# Altium footprint library Eurocard VME 3U (3.937 x 6.299 inches).PcbLib: 28 footprints (part 2 of 2)
Each footprint in its own frame and in the unit in brackets; x right, y up, seen from the top. Pads: shape width x height; smd on the part's side, far side on the other; paste and mask are expansions set on the pad; w line width, h text height; cw(c..) or ccw(c..) is an arc to the next point about the centre after c.
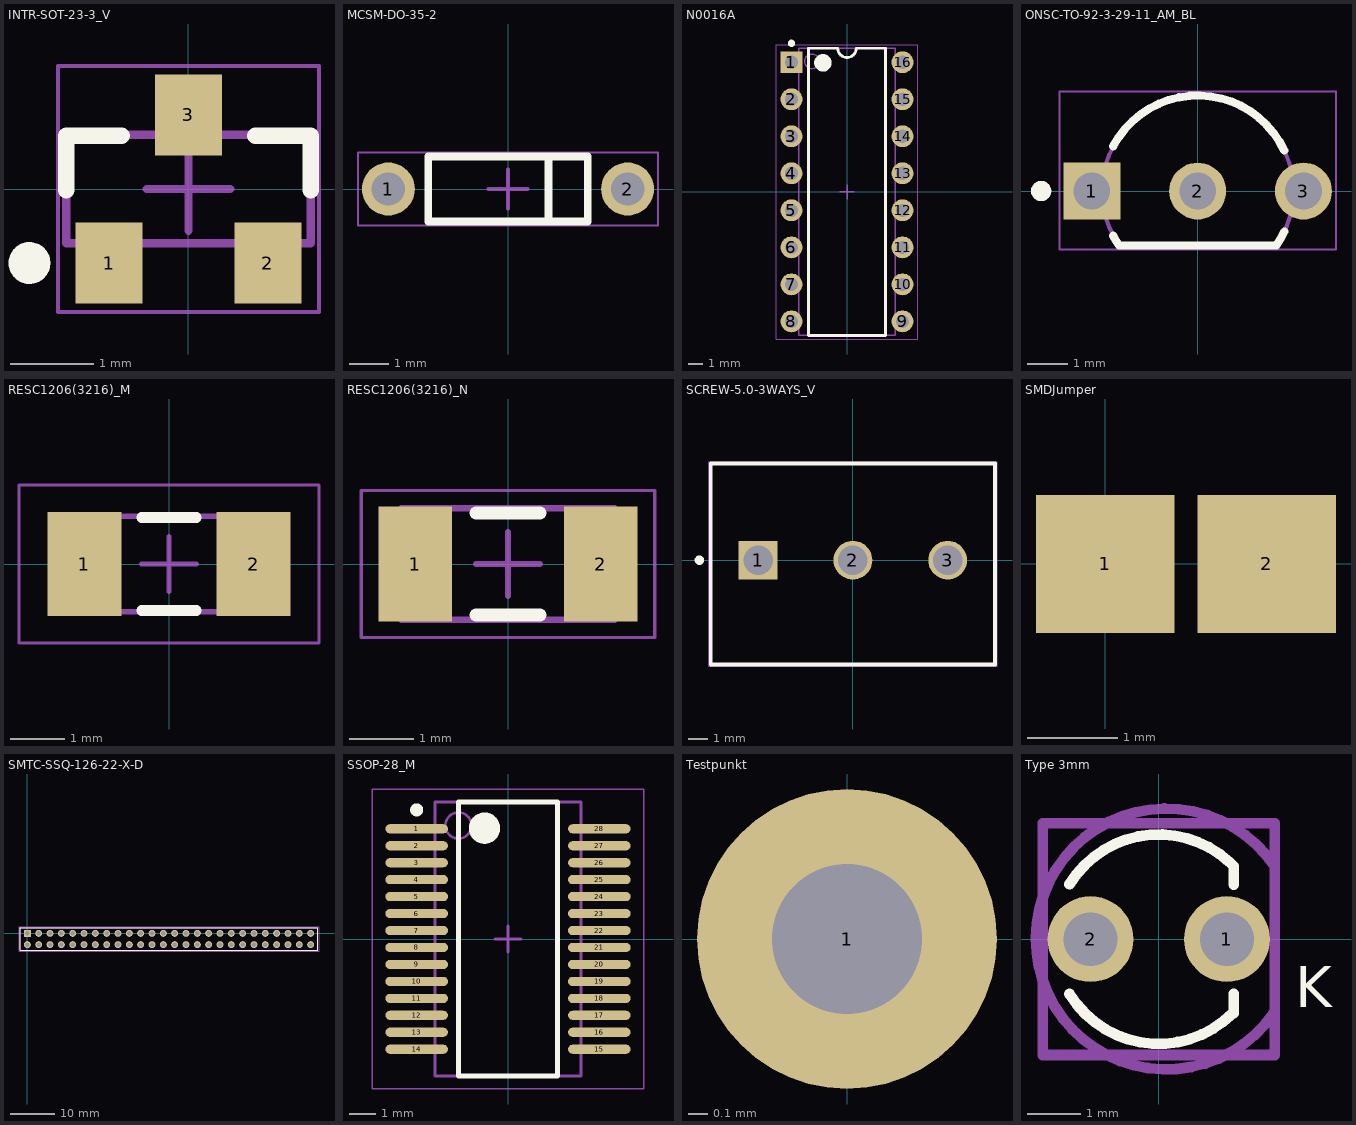
[diagram p1: the footprints below, top view; thin cyan lines are the x and y axes]

## INTR-SOT-23-3_V [mm]
pads (3):
  rect 0.802x0.972 smd: 1(-0.95,-0.885) 2(0.95,-0.885) 3(0,0.885)
Top Overlay:
  circle w0.25: c-1.901,-0.885 r0.125
  lines w0.2: -1.46,-0.014 -1.46,0.621 ; -1.46,0.635 -0.801,0.635 ; 0.801,0.635 1.46,0.635 ; 1.46,-0.014 1.46,0.621
Mechanical 13:
  lines w0.1: -1.46,-0.65 -1.46,0.65 1.46,0.65 1.46,-0.65 -1.46,-0.65
Mechanical 15:
  lines w0.05: -1.56,-1.471 -1.56,1.471 1.56,1.471 1.56,-1.471 -1.56,-1.471
  lines w0.1: -0.5,0 0.5,0 ; 0,-0.5 0,0.5
3D body: height 1.12, standoff 0.01, extent -1.46,-0.65 1.46,0.65

## MCSM-DO-35-2 [mm]
pads (2):
  round 1.35 hole 0.85: 1(-3.049,0) 2(3.049,0)
Top Overlay:
  lines w0.2: 1.033,-0.833 1.033,0.833 ; -2.032,-0.833 -2.032,0.833 2.033,0.833 2.033,-0.833 -2.032,-0.833
Mechanical 13:
  lines w0.1: -2.032,-0.833 2.033,-0.833 2.033,0.833 -2.032,0.833 -2.032,-0.833
Mechanical 15:
  lines w0.05: -3.824,-0.933 3.824,-0.933 3.824,0.933 -3.824,0.933 -3.824,-0.933
  lines w0.1: -0.5,0 0.5,0 ; 0,-0.5 0,0.5
3D body: height 1.11, standoff 0.55, extent -3.049,-0.305 -2.033,0.255
3D body: height 1.11, standoff 0.55, extent 2.769,-0.28 3.329,0.28
3D body: height 0.83, standoff -2, extent 2.769,-0.28 3.329,0.28
3D body: height 1.11, standoff 0.55, extent -3.328,-0.305 -2.769,0.255
3D body: height 0.83, standoff -2, extent -3.329,-0.304 -2.769,0.255
3D body: height 1.67, standoff 0, extent -2.032,-0.832 2.033,0.833
3D body: height 1.11, standoff 0.55, extent 2.033,-0.28 3.049,0.28

## N0016A [mm]
pads (16):
  rect 1.5x1.5 hole 0.9: 1(-3.81,8.89)
  round 1.5 hole 0.9: 2(-3.81,6.35) 3(-3.81,3.81) 4(-3.81,1.27) 5(-3.81,-1.27) 6(-3.81,-3.81) 7(-3.81,-6.35) 8(-3.81,-8.89) 9(3.81,-8.89) 10(3.81,-6.35) 11(3.81,-3.81) 12(3.81,-1.27) 13(3.81,1.27) 14(3.81,3.81) 15(3.81,6.35) 16(3.81,8.89)
Top Overlay:
  circle w0.6: c-1.65,8.85 r0.3
  circle w0.25: c-3.81,10.19 r0.125
  lines w0.2: -2.65,-9.85 2.65,-9.85 2.65,9.85 0.635,9.85 cw(c0,9.85) -0.635,9.85 -2.65,9.85 -2.65,-9.85
Mechanical 1:
  text ".Designator" at -2.921,-0.508 h1.2
Mechanical 13:
  circle w0.1: c-2.4,8.95 r0.5
  lines w0.1: -3.3,-9.85 3.3,-9.85 3.3,9.85 -3.3,9.85 -3.3,-9.85
Mechanical 15:
  lines w0.05: -4.85,-10.1 4.85,-10.1 4.85,10.1 -4.85,10.1 -4.85,-10.1
  lines w0.1: -0.5,0 0.5,0 ; 0,-0.5 0,0.5
3D body: height 5.08, standoff 0.51, extent -3.3,-9.85 3.3,9.85
3D body: height 0, standoff -1.6, extent 3.675,8.53 3.945,9.25
3D body: height 2.93, standoff 2.66, extent 3.3,8.39 3.945,9.39
3D body: height 2.66, standoff 0, extent 3.675,8.39 3.945,9.39
3D body: height 0, standoff -1.6, extent 3.675,5.99 3.945,6.71
3D body: height 2.93, standoff 2.66, extent 3.3,5.85 3.945,6.85
3D body: height 2.66, standoff 0, extent 3.675,5.85 3.945,6.85
3D body: height 0, standoff -1.6, extent 3.675,3.45 3.945,4.17
3D body: height 2.93, standoff 2.66, extent 3.3,3.31 3.945,4.31
3D body: height 2.66, standoff 0, extent 3.675,3.31 3.945,4.31
3D body: height 0, standoff -1.6, extent 3.675,0.91 3.945,1.63
3D body: height 2.93, standoff 2.66, extent 3.3,0.77 3.945,1.77
3D body: height 2.66, standoff 0, extent 3.675,0.77 3.945,1.77
3D body: height 0, standoff -1.6, extent 3.675,-1.63 3.945,-0.91
3D body: height 2.93, standoff 2.66, extent 3.3,-1.77 3.945,-0.77
3D body: height 2.66, standoff 0, extent 3.675,-1.77 3.945,-0.77
3D body: height 0, standoff -1.6, extent 3.675,-4.17 3.945,-3.45
3D body: height 2.93, standoff 2.66, extent 3.3,-4.31 3.945,-3.31
3D body: height 2.66, standoff 0, extent 3.675,-4.31 3.945,-3.31
3D body: height 0, standoff -1.6, extent 3.675,-6.71 3.945,-5.99
3D body: height 2.93, standoff 2.66, extent 3.3,-6.85 3.945,-5.85
3D body: height 2.66, standoff 0, extent 3.675,-6.85 3.945,-5.85
3D body: height 0, standoff -1.6, extent 3.675,-9.25 3.945,-8.53
3D body: height 2.93, standoff 2.66, extent 3.3,-9.39 3.945,-8.39
3D body: height 2.66, standoff 0, extent 3.675,-9.39 3.945,-8.39
3D body: height 0, standoff -1.6, extent -3.945,-9.25 -3.675,-8.53
3D body: height 2.93, standoff 2.66, extent -3.945,-9.39 -3.3,-8.39
3D body: height 2.66, standoff 0, extent -3.945,-9.39 -3.675,-8.39
3D body: height 0, standoff -1.6, extent -3.945,-6.71 -3.675,-5.99
3D body: height 2.93, standoff 2.66, extent -3.945,-6.85 -3.3,-5.85
3D body: height 2.66, standoff 0, extent -3.945,-6.85 -3.675,-5.85
3D body: height 0, standoff -1.6, extent -3.945,-4.17 -3.675,-3.45
3D body: height 2.93, standoff 2.66, extent -3.945,-4.31 -3.3,-3.31
3D body: height 2.66, standoff 0, extent -3.945,-4.31 -3.675,-3.31
3D body: height 0, standoff -1.6, extent -3.945,-1.63 -3.675,-0.91
3D body: height 2.93, standoff 2.66, extent -3.945,-1.77 -3.3,-0.77
3D body: height 2.66, standoff 0, extent -3.945,-1.77 -3.675,-0.77
3D body: height 0, standoff -1.6, extent -3.945,0.91 -3.675,1.63
3D body: height 2.93, standoff 2.66, extent -3.945,0.77 -3.3,1.77
3D body: height 2.66, standoff 0, extent -3.945,0.77 -3.675,1.77
3D body: height 0, standoff -1.6, extent -3.945,3.45 -3.675,4.17
3D body: height 2.93, standoff 2.66, extent -3.945,3.31 -3.3,4.31
3D body: height 2.66, standoff 0, extent -3.945,3.31 -3.675,4.31
3D body: height 0, standoff -1.6, extent -3.945,5.99 -3.675,6.71
3D body: height 2.93, standoff 2.66, extent -3.945,5.85 -3.3,6.85
3D body: height 2.66, standoff 0, extent -3.945,5.85 -3.675,6.85
3D body: height 0, standoff -1.6, extent -3.945,8.53 -3.675,9.25
3D body: height 2.93, standoff 2.66, extent -3.945,8.39 -3.3,9.39
3D body: height 2.66, standoff 0, extent -3.945,8.39 -3.675,9.39

## ONSC-TO-92-3-29-11_AM_BL [mm]
pads (3):
  rect 1.4x1.4 hole 0.9: 1(-2.6,0)
  round 1.4 hole 0.9: 2(0,0) 3(2.6,0)
Top Overlay:
  circle w0.25: c-3.85,0 r0.125
  lines w0.2: -2.077,-1.1 ccw(c0,0) -1.934,-1.335 1.934,-1.335 ccw(c0,0) 2.129,-0.994 ; -2.077,1.1 cw(c0,0) 2.129,0.994
Mechanical 13:
  lines w0.1: -1.934,-1.335 cw(c0,0) 1.934,-1.335 -1.934,-1.335
Mechanical 15:
  lines w0.05: -3.4,-1.435 -3.4,2.45 3.4,2.45 3.4,-1.435 -3.4,-1.435
  lines w0.1: -0.5,0 0.5,0 ; 0,-0.5 0,0.5
3D body "PCB3.step": height 4, standoff -8.7, extent -2.836,-0.222 2.836,0.223
3D body: height 5.33, standoff 1.5, extent -2.359,-1.335 2.359,2.351

## RESC1206(3216)_M [mm]
pads (2):
  rect 1.35x1.9 smd: 1(-1.55,0) 2(1.55,0)
Top Overlay:
  lines w0.2: -0.5,-0.85 0.5,-0.85 ; -0.5,0.85 0.5,0.85
Mechanical 13:
  lines w0.1: -1.675,-0.875 -1.675,0.875 1.675,0.875 1.675,-0.875 -1.675,-0.875
Mechanical 15:
  lines w0.05: -2.75,-1.45 -2.75,1.45 2.75,1.45 2.75,-1.45 -2.75,-1.45
  lines w0.1: -0.5,0 0.5,0 ; 0,-0.5 0,0.5
3D body: height 0.75, standoff 0, extent 1.181,-0.874 1.675,0.875
3D body: height 0.75, standoff 0, extent -1.18,-0.874 1.181,0.875
3D body: height 0.75, standoff 0, extent -1.674,-0.874 -1.18,0.875

## RESC1206(3216)_N [mm]
pads (2):
  rect 1.15x1.8 smd: 1(-1.45,0) 2(1.45,0)
Top Overlay:
  lines w0.2: -0.5,-0.8 0.5,-0.8 ; -0.5,0.8 0.5,0.8
Mechanical 13:
  lines w0.1: -1.675,-0.875 1.675,-0.875 1.675,0.875 -1.675,0.875 -1.675,-0.875
Mechanical 15:
  lines w0.05: -2.3,-1.15 2.3,-1.15 2.3,1.15 -2.3,1.15 -2.3,-1.15
  lines w0.1: -0.5,0 0.5,0 ; 0,-0.5 0,0.5
3D body: height 0.75, standoff 0, extent 1.181,-0.874 1.675,0.875
3D body: height 0.75, standoff 0, extent -1.18,-0.874 1.181,0.875
3D body: height 0.75, standoff 0, extent -1.674,-0.874 -1.18,0.875

## SCREW-5.0-3WAYS_V [mm]
pads (3):
  rect 2.05x2.05 hole 1.55: 1(-5,0)
  round 2.05 hole 1.55: 2(0,0) 3(5,0)
Top Overlay:
  circle w0.25: c-8.1,0 r0.125
  lines w0.2: -7.5,-5.5 -7.5,5.1 7.5,5.1 7.5,-5.5 -7.5,-5.5
Mechanical 13:
  lines w0.1: -7.5,-5.5 -7.5,5.1 7.5,5.1 7.5,-5.5 -7.5,-5.5
Mechanical 15:
  lines w0.05: -7.6,-5.6 7.6,-5.6 7.6,5.2 -7.6,5.2 -7.6,-5.6
  lines w0.1: -0.5,0 0.5,0 ; 0,-0.5 0,0.5
3D body "1.step": height 9.01, standoff 0.01, extent -7.499,-5.5 7.5,5.1
3D body: height 12, standoff 9, extent -7.499,-5.5 7.5,3.05
3D body: height 17.2, standoff 12, extent -7.499,-5.5 7.501,3.05
3D body: height 18.2, standoff 17.2, extent -7.499,-2.449 7.499,-0.2
3D body: height 18.2, standoff 17.2, extent -7.499,-0.2 7.499,2.049
3D body: height 18.2, standoff 17.2, extent -7.499,2.049 7.501,3.05
3D body: height 18.2, standoff 17.2, extent -7.499,-3.731 7.501,-3.4
3D body: height 18.2, standoff 17.2, extent -7.499,-3.4 7.501,-2.449
3D body: height 17.7, standoff 17.2, extent -6.75,0.05 -5.25,1.55
3D body: height 17.7, standoff 17.2, extent -4.75,0.05 -3.25,1.55
3D body: height 17.7, standoff 17.2, extent -6.75,-1.95 -5.25,-0.45
3D body: height 17.7, standoff 17.2, extent -4.75,-1.95 -3.25,-0.45
3D body: height 17.7, standoff 17.2, extent 0.25,-1.95 1.75,-0.45
3D body: height 17.7, standoff 17.2, extent -1.75,-1.95 -0.25,-0.45
3D body: height 17.7, standoff 17.2, extent 0.25,0.05 1.75,1.55
3D body: height 17.7, standoff 17.2, extent -1.75,0.05 -0.25,1.55
3D body: height 17.7, standoff 17.2, extent 5.25,-1.95 6.75,-0.45
3D body: height 17.7, standoff 17.2, extent 3.25,-1.95 4.75,-0.45
3D body: height 17.7, standoff 17.2, extent 5.25,0.05 6.75,1.55
3D body: height 17.7, standoff 17.2, extent 3.25,0.05 4.75,1.55
3D body: height 0.01, standoff -5.07, extent -5.5,-0.4 -4.5,0.4
3D body: height 0.01, standoff -5.07, extent -0.5,-0.4 0.5,0.4
3D body: height 0.01, standoff -5.07, extent 4.5,-0.4 5.5,0.4

## SMDJumper [mil]
pads (2):
  rect 60x60 smd: 1(0,0) 2(70,0)
Top Solder:
  rectangle: 30,-25 40,25

## SMTC-SSQ-126-22-X-D [mm]
pads (52):
  rect 1.55x1.55 hole 1.02: 1(0,0)
  round 1.55 hole 1.02: 2(0,-2.54) 3(2.54,0) 4(2.54,-2.54) 5(5.08,0) 6(5.08,-2.54) 7(7.62,0) 8(7.62,-2.54) 9(10.16,0) 10(10.16,-2.54) 11(12.7,0) 12(12.7,-2.54) 13(15.24,0) 14(15.24,-2.54) 15(17.78,0) 16(17.78,-2.54) 17(20.32,0) 18(20.32,-2.54) 19(22.86,0) 20(22.86,-2.54) 21(25.4,0) 22(25.4,-2.54) 23(27.94,0) 24(27.94,-2.54) 25(30.48,0) 26(30.48,-2.54) 27(33.02,0) 28(33.02,-2.54) 29(35.56,0) 30(35.56,-2.54) 31(38.1,0) 32(38.1,-2.54) 33(40.64,0) 34(40.64,-2.54) 35(43.18,0) 36(43.18,-2.54) 37(45.72,0) 38(45.72,-2.54) 39(48.26,0) 40(48.26,-2.54) 41(50.8,0) 42(50.8,-2.54) 43(53.34,0) 44(53.34,-2.54) 45(55.88,0) 46(55.88,-2.54) 47(58.42,0) 48(58.42,-2.54) 49(60.96,0) 50(60.96,-2.54) 51(63.5,0) 52(63.5,-2.54)
Top Overlay:
  lines w0.2: -1.65,-3.745 -1.65,1.205 65.15,1.205 65.15,-3.745 -1.65,-3.745
Mechanical 13:
  lines w0.1: -1.65,-3.745 -1.65,1.205 65.15,1.205 65.15,-3.745 -1.65,-3.745
Mechanical 15:
  lines w0.05: -1.875,-3.97 -1.875,1.43 65.375,1.43 65.375,-3.97 -1.875,-3.97
3D body "SSQ-126-22-X-D.step": height 8.51, standoff -4.93, extent -1.524,-3.746 65.024,1.207

## SSOP-28_M [mm]
pads (28):
  oval 2.4x0.35 smd: 1(-3.5,4.225) 2(-3.5,3.575) 3(-3.5,2.925) 4(-3.5,2.275) 5(-3.5,1.625) 6(-3.5,0.975) 7(-3.5,0.325) 8(-3.5,-0.325) 9(-3.5,-0.975) 10(-3.5,-1.625) 11(-3.5,-2.275) 12(-3.5,-2.925) 13(-3.5,-3.575) 14(-3.5,-4.225) 15(3.5,-4.225) 16(3.5,-3.575) 17(3.5,-2.925) 18(3.5,-2.275) 19(3.5,-1.625) 20(3.5,-0.975) 21(3.5,-0.325) 22(3.5,0.325) 23(3.5,0.975) 24(3.5,1.625) 25(3.5,2.275) 26(3.5,2.925) 27(3.5,3.575) 28(3.5,4.225)
Top Overlay:
  circle w0.6: c-0.9,4.25 r0.3
  circle w0.25: c-3.5,4.95 r0.125
  lines w0.2: -1.9,-5.25 1.9,-5.25 1.9,5.25 -1.9,5.25 -1.9,-5.25
Mechanical 13:
  circle w0.1: c-1.9,4.35 r0.5
  lines w0.1: -2.8,-5.25 2.8,-5.25 2.8,5.25 -2.8,5.25 -2.8,-5.25
Mechanical 15:
  lines w0.05: -5.2,-5.75 5.2,-5.75 5.2,5.75 -5.2,5.75 -5.2,-5.75
  lines w0.1: -0.5,0 0.5,0 ; 0,-0.5 0,0.5
3D body: height 2, standoff 0.05, extent -2.8,-5.25 2.8,5.25

## Testpunkt [mil]
pads (1):
  round 60 hole 30: 1(0,0)

## Type 3mm [mm]
pads (2):
  round 1.6 hole 1: 1(1.27,0) 2(-1.27,0)
Top Overlay:
  lines w0.2: -1.661,-1.022 ccw(c0,0) 1.379,-1.379 ; -1.661,1.022 cw(c0,0) 1.312,1.443 1.397,1.358 1.397,1.016 ; 1.397,-1.379 1.397,-1.016
  text "K" at 2.54,-1.27 h0.76
Mechanical 13:
  lines w0.2: -2.159,-2.159 2.159,-2.159 2.159,2.159 -2.159,2.159 -2.159,-2.159
Mechanical 15:
  lines w0.2: 2.139,-1.38 cw(c0.143,0.003) 2.159,1.358 2.159,-1.379
  text "K" at 2.54,-1.27 h0.76
  text ".Designator" at 0,0 h0.76
3D body "WL-TMRW_3mm.stp": height 10.5, standoff -21.2, extent -1.934,-1.939 1.87,1.94